# Altium footprint library Footprints.PcbLib: 21 footprints (part 2 of 2)
Each footprint in its own frame and in the unit in brackets; x right, y up, seen from the top. Pads: shape width x height; smd on the part's side, far side on the other; paste and mask are expansions set on the pad; w line width, h text height; cw(c..) or ccw(c..) is an arc to the next point about the centre after c.
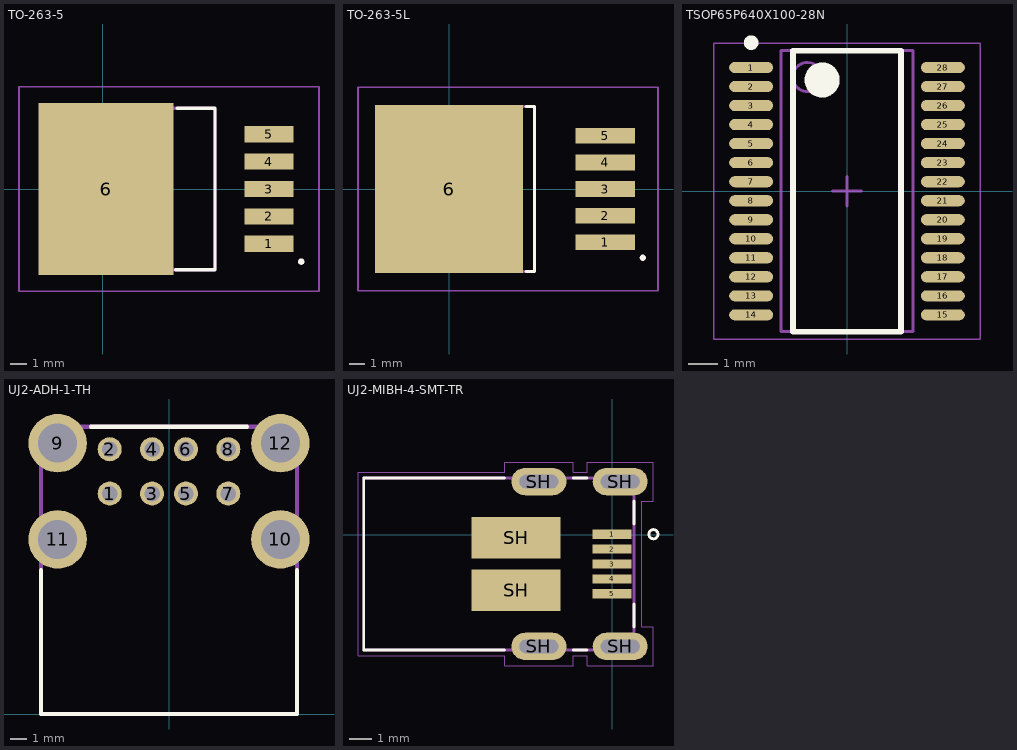
[diagram p1: the footprints below, top view; thin cyan lines are the x and y axes]

## TO-263-5 [mm]
pads (6):
  rect 3.05x1.016 smd: 1(10.3,-3.404) 2(10.3,-1.702) 3(10.3,0) 4(10.3,1.702) 5(10.3,3.404)
  rect 8.38x10.66 smd: 6(0.2,0)
Top Overlay:
  lines w0.2: 4.5,-5.01 6.947,-5.01 6.947,5.01 4.6,5.01 ; 12.3,-4.6 cw(c12.3,-4.5) 12.3,-4.4 cw(c12.3,-4.5) 12.3,-4.6
Mechanical 13:
  lines w0.2: -2.4,-5.01 -2.4,5.01 6.947,5.01 6.947,-5.01 -2.4,-5.01
Mechanical 15:
  lines w0.1: -5.195,-6.33 -5.195,6.33 13.4,6.33 13.4,-6.33 -5.195,-6.33
3D body "D²PAK TO-263-5.STEP": height 4.87, standoff 0, extent -3.99,-5.08 10.24,5.08

## TO-263-5L [mm]
pads (6):
  rect 3.8x1 smd: 1(10,-3.4) 2(10,-1.7) 3(10,0) 4(10,1.7) 5(10,3.4)
  rect 9.45x10.75 smd: 6(0,0)
Top Overlay:
  lines w0.2: 4.925,-5.275 5.475,-5.275 5.475,5.275 4.925,5.275 ; 12.4,-4.5 ccw(c12.4,-4.4) 12.4,-4.3 ccw(c12.4,-4.4) 12.4,-4.5
Mechanical 13:
  lines w0.2: -4.175,-5.275 -4.175,5.275 5.475,5.275 5.475,-5.275 -4.175,-5.275
Mechanical 15:
  lines w0.1: -5.825,-6.5 -5.825,6.5 13.375,6.5 13.375,-6.5 -5.825,-6.5
3D body "TO263-5.STEP": height 4.78, standoff -0.02, extent -4.71,-5 10.96,5

## TSOP65P640X100-28N [mm] "TSOP, 28-Leads, Body 9.70x4.40mm, Pitch 0.65mm, IPC Medium Density"
height 1
pads (28):
  oval 1.5x0.381 smd: 1(-3.275,4.225) 2(-3.275,3.575) 3(-3.275,2.925) 4(-3.275,2.275) 5(-3.275,1.625) 6(-3.275,0.975) 7(-3.275,0.325) 8(-3.275,-0.325) 9(-3.275,-0.975) 10(-3.275,-1.625) 11(-3.275,-2.275) 12(-3.275,-2.925) 13(-3.275,-3.575) 14(-3.275,-4.225) 15(3.275,-4.225) 16(3.275,-3.575) 17(3.275,-2.925) 18(3.275,-2.275) 19(3.275,-1.625) 20(3.275,-0.975) 21(3.275,-0.325) 22(3.275,0.325) 23(3.275,0.975) 24(3.275,1.625) 25(3.275,2.275) 26(3.275,2.925) 27(3.275,3.575) 28(3.275,4.225)
Top Overlay:
  circle w0.25: c-3.275,5.075 r0.125
  circle w0.6: c-0.85,3.8 r0.3
  lines w0.2: -1.85,-4.8 -1.85,4.8 1.85,4.8 1.85,-4.8 -1.85,-4.8
Mechanical 13:
  circle w0.1: c-1.35,3.9 r0.5
  lines w0.1: -2.25,-4.8 -2.25,4.8 2.25,4.8 2.25,-4.8 -2.25,-4.8
Mechanical 15:
  lines w0.05: -4.55,-5.05 -4.55,5.05 4.55,5.05 4.55,-5.05 -4.55,-5.05
  lines w0.1: -0.5,0 0.5,0 ; 0,-0.5 0,0.5
3D body "TSOP65P640X100-28N.step": height 1, standoff 0, extent -3.2,-4.8 3.2,4.8

## UJ2-ADH-1-TH [mm]
pads (12):
  round 1.42 hole 0.92: 1(-3.5,13.01) 2(-3.5,15.625) 3(-1,13.01) 4(-1,15.625) 5(1,13.01) 6(1,15.625) 7(3.5,13.01) 8(3.5,15.625)
  round 3.45 hole 2.3: 9(-6.57,15.98) 10(6.57,10.3) 11(-6.57,10.3) 12(6.57,15.98)
Top Overlay:
  lines w0.254: -7.55,8.475 -7.55,0 7.55,0 7.55,8.475 ; -4.6,16.95 4.6,16.95
Mechanical 13:
  lines w0.254: -7.55,0 -7.55,16.95 7.55,16.95 7.55,0 -7.55,0
3D body "UJ2-ADH-1-TH.stp": height 16.17, standoff -3.25, extent -8.024,0.032 8.024,17.125

## UJ2-MIBH-4-SMT-TR [mm]
pads (11):
  rect 1.7x0.4 smd: 1(0,0.03) 2(0,-0.62) 3(0,-1.27) 4(0,-1.92) 5(0,-2.57)
  rect 3.9x1.8 smd: SH(-4.2,-2.42) SH(-4.2,-0.12)
  oval 2.4x1.2 hole 0.6 slot 1.7 at 0 deg: SH(-3.2,-4.87) SH(-3.2,2.33) SH(0.35,-4.87) SH(0.35,2.33)
Top Overlay:
  circle w0.127: c1.8,0.03 r0.2
  lines w0.127: -4.7,-5.02 -10.85,-5.02 -10.85,2.48 -4.7,2.48 ; -1.7,-5.02 -1.1,-5.02 ; -1.7,2.48 -1.1,2.48 ; 0.95,-4.02 0.95,-3.02 ; 0.95,0.48 0.95,1.48
Mechanical 13:
  circle w0.16: c-0.25,0.03 r0.08
  lines w0.127: -10.85,-5.02 -10.85,2.48 -7.85,2.48 0.95,2.48 0.95,-5.02 -10.85,-5.02
Mechanical 15:
  lines w0.05: -11.1,-5.27 -11.1,2.73 -4.7,2.73 -4.7,3.18 -1.7,3.18 -1.7,2.73 -1.1,2.73 -1.1,3.18 1.8,3.18 1.8,1.48 1.3,1.48 1.3,-4.02 1.8,-4.02 1.8,-5.72 -1.1,-5.72 -1.1,-5.27 -1.7,-5.27 -1.7,-5.72 -4.7,-5.72 -4.7,-5.27 -11.1,-5.27
3D body "CUI_DEVICES_UJ2-MIBH-4-SMT.step": height 2.71, standoff -0.65, extent -10.825,-5.025 0.975,2.475